# Altium schematic symbol library FH12-16S-1SH(55).SchLib: 1 symbol
Pins are listed as number, name and electrical type; pins without a type are passive.

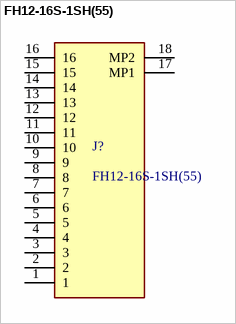
[diagram p0: symbol FH12-16S-1SH(55)]

## FH12-16S-1SH(55)
designator J?
footprint FH12-16S-1SH(55)
pins: 1, 2, 3, 4, 5, 6, 7, 8, 9, 10, 11, 12, 13, 14, 15, 16, 17 MP1, 18 MP2